# Altium schematic symbol library LTC2875xDD.SchLib: 1 symbol
Pins are listed as number, name and electrical type; pins without a type are passive.

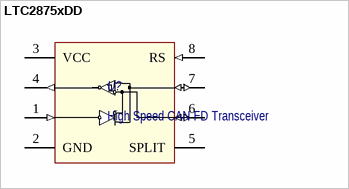
[diagram p0: symbol LTC2875xDD]

## LTC2875xDD
designator U?, comment High Speed CAN FD Transceiver
±60V Fault Protected / 3.3V or 5V 25kV ESD / High Speed CAN FD Transceiver; Наименование: LTC2875MPDD; Потребление, Вт: 0,2; Назначение: High Speed CAN FD Transceiver
footprint 8-DFN_3x3 (DFN, 8-Leads, Body 3,00x3,00mm, Pitch 0,50mm, Thermal Pad 2,38x1,49mm, IPC Medium Density)
pins: 1 TXD (in), 2 GND (power), 3 VCC (power), 4 RXD (out), 5 SPLIT (power), 6 CANL (io) "CAN LOW", 7 CANH (io) "CAN HIGHT", 8 RS (in), 9 GND (power) "TP"